# Altium footprint library RelayDriver.PcbLib: 7 footprints
Each footprint in its own frame and in the unit in brackets; x right, y up, seen from the top. Pads: shape width x height; smd on the part's side, far side on the other; paste and mask are expansions set on the pad; w line width, h text height; cw(c..) or ccw(c..) is an arc to the next point about the centre after c.
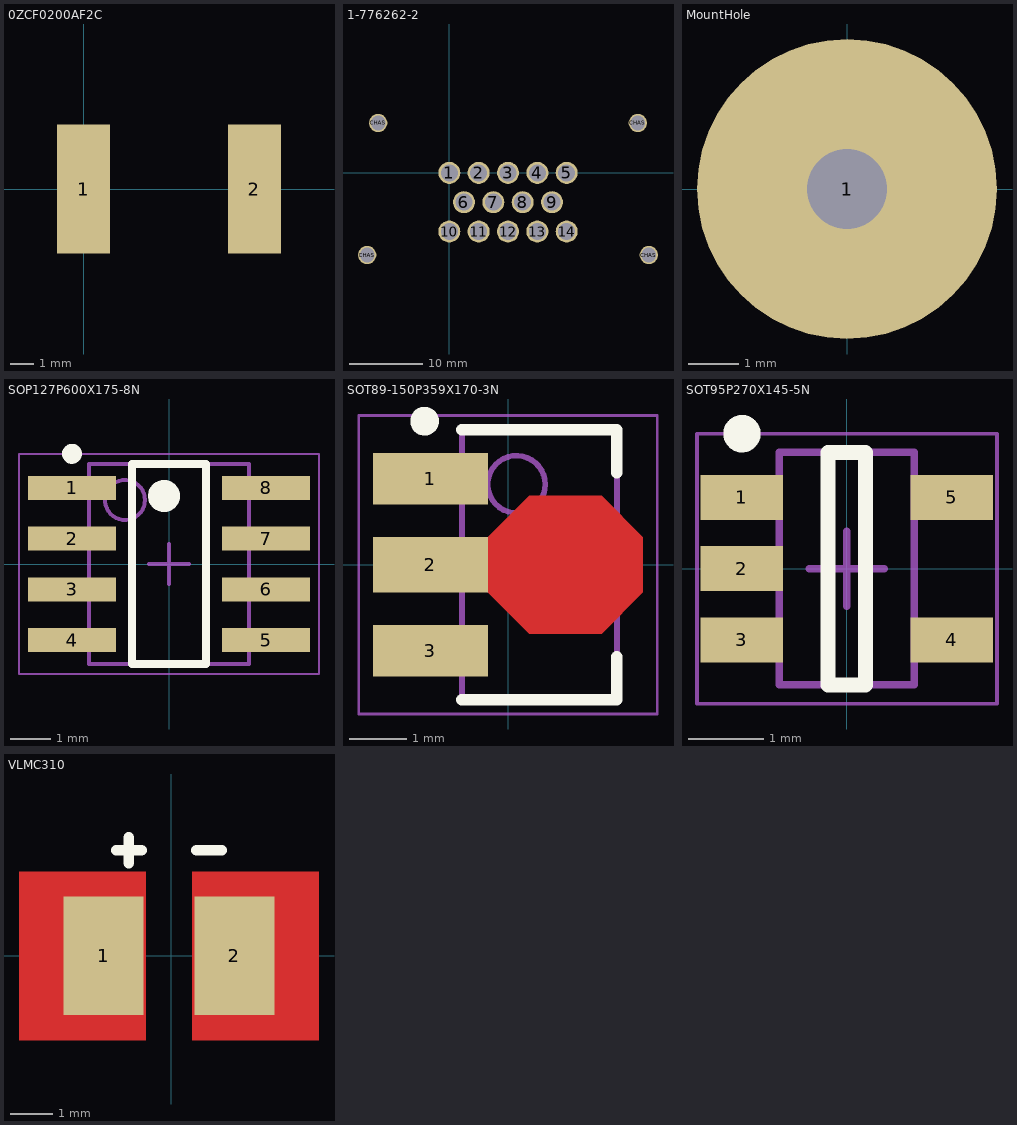
[diagram p0: the footprints below, top view; thin cyan lines are the x and y axes]

## 0ZCF0200AF2C [mm]
pads (2):
  rect 2.3x5.6 smd: 1(0,0) 2(7.4,0)
3D body: height 2.6, standoff 0, extent -0.1,-2.7 7.7,2.7

## 1-776262-2 [mm] "14P AMPSEAL VERT HDR W/GASKET"
pads (18):
  round 3 hole 2.32: 1(0,0) 2(4,0) 3(8,0) 4(12,0) 5(16,0) 6(2,-4) 7(6,-4) 8(10,-4) 9(14,-4) 10(0,-8) 11(4,-8) 12(8,-8) 13(12,-8) 14(16,-8)
  round 2.5 hole 2: CHAS(-11.2,-11.2) CHAS(-9.7,6.8) CHAS(25.7,6.8) CHAS(27.2,-11.2)
3D body: height 34.3, standoff -3.75, extent -16.4,-19.95 32.4,12.15

## MountHole [mm]
pads (1):
  round 6 hole 1.6: 1(0,0)

## SOP127P600X175-8N [mm] "SOP, 8-Leads, Body 4.90x3.90mm, Pitch 1.27mm, IPC Medium Density"
height 1.75
pads (8):
  rect 2.2x0.6 smd: 1(-2.425,1.905) 2(-2.425,0.635) 3(-2.425,-0.635) 4(-2.425,-1.905) 5(2.425,-1.905) 6(2.425,-0.635) 7(2.425,0.635) 8(2.425,1.905)
Top Overlay:
  circle w0.25: c-2.425,2.755 r0.125
  circle w0.4: c-0.125,1.7 r0.2
  lines w0.2: -0.925,-2.5 -0.925,2.5 0.925,2.5 0.925,-2.5 -0.925,-2.5
Mechanical 13:
  circle w0.1: c-1.1,1.6 r0.5
  lines w0.1: -2,-2.5 -2,2.5 2,2.5 2,-2.5 -2,-2.5
Mechanical 15:
  lines w0.05: -3.75,-2.75 -3.75,2.75 3.75,2.75 3.75,-2.75 -3.75,-2.75
  lines w0.1: -0.5,0 0.5,0 ; 0,-0.5 0,0.5
3D body: height 1.75, standoff 0.19, extent -2,-2.5 2,2.5

## SOT89-150P359X170-3N [mm] "SOT89, 3-Leads, Body 4.50x2.50mm, Pitch 1.50mm, Lead Span 3.6mm, IPC Medium Density"
height 1.7
pads (3):
  rect 2x0.9 smd: 1(-1.35,1.5) 3(-1.35,-1.5)
  rect 2x0.96 smd: 2(-1.35,0)
Top Layer:
  region: -0.35,0.48 0.37,1.2 1.63,1.2 2.35,0.48 2.35,-0.48 1.63,-1.2 0.37,-1.2 -0.35,-0.48
Top Overlay:
  circle w0.25: c-1.452,2.5 r0.125
  lines w0.2: -0.802,-2.35 1.898,-2.35 1.898,-1.6 ; -0.802,2.35 1.898,2.35 1.898,1.6
Mechanical 13:
  circle w0.1: c0.148,1.4 r0.5
  lines w0.1: -0.802,-2.35 -0.802,2.35 1.898,2.35 1.898,-2.35 -0.802,-2.35
Mechanical 15:
  lines w0.05: -2.6,-2.6 -2.6,2.6 2.6,2.6 2.6,-2.6 -2.6,-2.6
  lines w0.1: 0.048,0 1.048,0 ; 0.548,-0.5 0.548,0.5
3D body: height 1.7, standoff 0, extent -0.802,-2.35 1.898,2.35

## SOT95P270X145-5N [mm] "SOT23, 5-Leads, Body 2.90x2.70mm, Pitch 0.95mm, IPC Medium Density"
height 1.45
pads (5):
  rect 1.1x0.6 smd: 1(-1.4,0.95) 2(-1.4,0) 3(-1.4,-0.95) 4(1.4,-0.95) 5(1.4,0.95)
Top Overlay:
  circle w0.25: c-1.4,1.8 r0.125
  lines w0.2: -0.25,-1.55 -0.25,1.55 0.25,1.55 0.25,-1.55 -0.25,-1.55
Mechanical 13:
  lines w0.1: -0.9,-1.55 0.9,-1.55 0.9,1.55 -0.9,1.55 -0.9,-1.55
Mechanical 15:
  lines w0.05: -2,-1.8 2,-1.8 2,1.8 -2,1.8 -2,-1.8
  lines w0.1: -0.5,0 0.5,0 ; 0,-0.5 0,0.5
3D body: height 1.45, standoff 0, extent -0.9,-1.55 0.9,1.55

## VLMC310 [mm] "Vishay Low Current SMD LED PLCC-2"
height 1.85
pads (2):
  rect 1.9x2.8 smd: 1(-1.6,0) 2(1.5,0)
Top Layer:
  rectangle: 0.5,-2 3.5,2
  rectangle: -3.6,-2 -0.6,2
Top Overlay:
  lines w0.254: -1.3,2.5 -0.7,2.5 ; -1,2.2 -1,2.8 ; 0.6,2.5 1.2,2.5
3D body: height 1.85, standoff 0, extent -1.8,-1.5 1.7,1.5